# Altium footprint library PcbLib1.PcbLib: 17 footprints (part 2 of 2)
Each footprint in its own frame and in the unit in brackets; x right, y up, seen from the top. Pads: shape width x height; smd on the part's side, far side on the other; paste and mask are expansions set on the pad; w line width, h text height; cw(c..) or ccw(c..) is an arc to the next point about the centre after c.
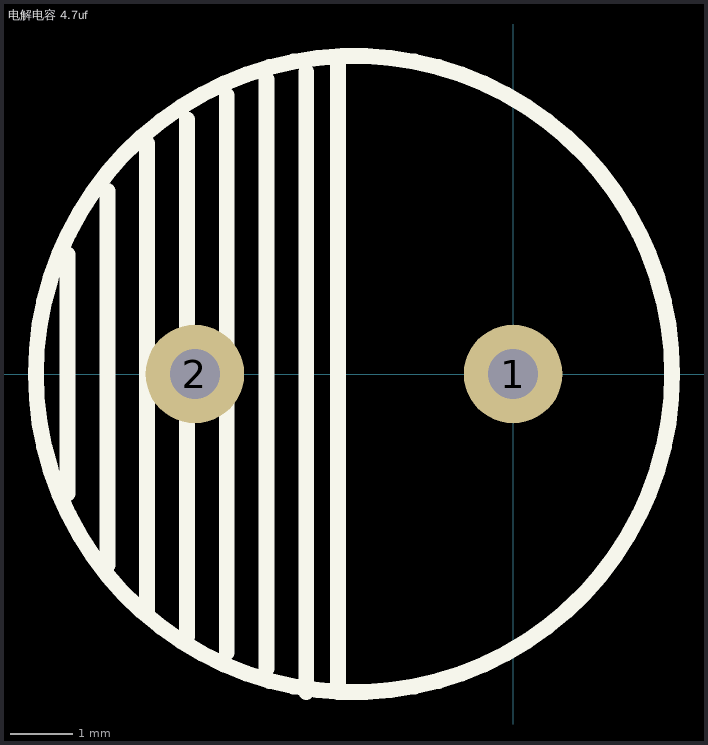
[diagram p1: the footprint, top view; thin cyan lines are the x and y axes]

## 电解电容 4.7uf [mil]
pads (2):
  round 62 hole 31.5: 1(0,0) 2(-200,0)
Top Overlay:
  circle w10: c-100,0 r200
  lines w10: -280,-75 -280,75 ; -255,-120 -255,115 ; -230,-150 -230,145 ; -205,-165 -205,160 ; -180,-175 -180,175 ; -155,-185 -155,185 ; -130,-200 -130,190 ; -110,-200 -110,195